# Altium schematic symbol library ESDA6V1-5SC6Y.SchLib: 1 symbol
Pins are listed as number, name and electrical type; pins without a type are passive.

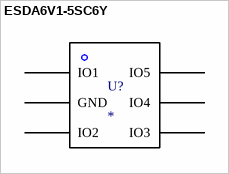
[diagram p0: symbol ESDA6V1-5SC6Y]

## ESDA6V1-5SC6Y
designator U?
PartNumber: ESDA6V1-5SC6Y; Manufacturer: STMicroelectronics; PartDescription: TVS DIODE 5.2V 11.4V SOT23-6; Package Type: SOT23-6; Supplier 1: Digi-Key; Supplier Part Number 1: 497-17311-1-ND
footprint SOT23-6
pins: 1 IO1, 2 GND, 3 IO2, 4 IO3, 5 IO4, 6 IO5